# Altium schematic symbol library ERJ-2RKF60R4X.SchLib: 1 symbol
Pins are listed as number, name and electrical type; pins without a type are passive.

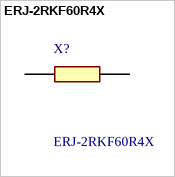
[diagram p0: symbol ERJ-2RKF60R4X]

## ERJ-2RKF60R4X
designator X?
Panasonic Thick Film Resistor 60.4 0.1W +/-100ppm/C; Geometry.Height: 0.4mm; Mouser Part Number: 667-ERJ-2RKF60R4X; Mouser Price/Stock: https://www.mouser.com/Search/Refine.aspx?Keyword=667-ERJ-2RKF60R4X; Manufacturer_Name: Panasonic; Manufacturer_Part_Number: ERJ-2RKF60R4X; Datasheet Link: https://componentsearchengine.com/Datasheets/1/ERJ-2RKF60R4X.pdf
footprint ERJ2RKD1004X
pins: 1, 2